# EAGLE library part MMA8452Q (library johnmamish-freescale)
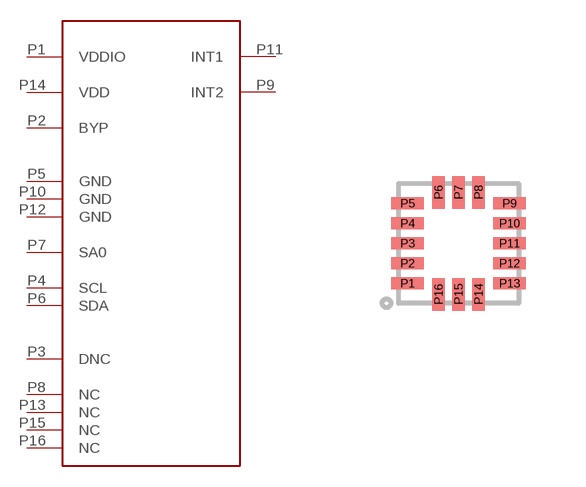
[diagram p0: symbol with the pads of MMA8452Q; footprint MMA8452Q]

Designator prefix -

## MMA8452Q  [MMA8452Q]
P1  VDDIO
P2  BYP
P3  DNC
P4  SCL
P5  GND
P6  SDA
P7  SA0
P8  NC
P9  INT2
P10  GND
P11  INT1
P12  GND
P13  NC
P14  VDD
P15  NC
P16  NC

## Footprint MMA8452Q (pad centres in mm)
smd 0.813 x 0.305: P1 -1.275,-1; P2 -1.275,-0.5; P3 -1.275,0; P4 -1.275,0.5; P5 -1.275,1; P9 1.275,1; P10 1.275,0.5; P11 1.275,0; P12 1.275,-0.5; P13 1.275,-1
smd 0.305 x 0.813: P6 -0.5,1.275; P7 0,1.275; P8 0.5,1.275; P14 0.5,-1.275; P15 0,-1.275; P16 -0.5,-1.275